# Altium footprint library Supernova Sensors.PcbLib: 18 footprints (part 2 of 2)
Each footprint in its own frame and in the unit in brackets; x right, y up, seen from the top. Pads: shape width x height; smd on the part's side, far side on the other; paste and mask are expansions set on the pad; w line width, h text height; cw(c..) or ccw(c..) is an arc to the next point about the centre after c.
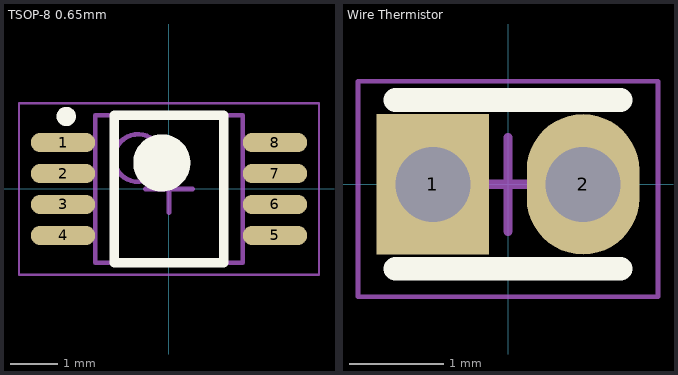
[diagram p1: the footprints below, top view; thin cyan lines are the x and y axes]

## TSOP-8 0.65mm [mm] "TSOP, 8-Leads, Body 3.00x3.00mm, Pitch 0.65mm, IPC Medium Density"
height 1.1
pads (8):
  oval 1.35x0.406 smd mask+0.025: 1(-2.225,0.975) 2(-2.225,0.325) 3(-2.225,-0.325) 4(-2.225,-0.975) 5(2.225,-0.975) 6(2.225,-0.325) 7(2.225,0.325) 8(2.225,0.975)
Top Overlay:
  circle w0.6: c-0.15,0.55 r0.3
  circle w0.203: c-2.159,1.524 r0.102
  lines w0.2: -1.15,-1.55 1.15,-1.55 1.15,1.55 -1.15,1.55 -1.15,-1.55
Top 3D Body:
  circle w0.1: c-0.65,0.65 r0.5
  lines w0.1: -1.55,-1.55 1.55,-1.55 1.55,1.55 -1.55,1.55 -1.55,-1.55
Top Courtyard:
  lines w0.05: -3.15,-1.8 3.15,-1.8 3.15,1.8 -3.15,1.8 -3.15,-1.8
  lines w0.1: -0.5,0 0.5,0 ; 0,-0.5 0,0.5
3D body: height 1.1, standoff 0.05, extent -1.55,-1.55 1.55,1.55
3D body: height 0.2, standoff 0, extent -2.375,0.8 2.464,1.15
3D body: height 0.2, standoff 0, extent -2.375,0.15 2.464,0.5
3D body: height 0.2, standoff 0, extent -2.375,-0.5 2.464,-0.15
3D body: height 0.2, standoff 0, extent -2.375,-1.15 2.464,-0.8

## Wire Thermistor [mm]
pads (2):
  rect 1.2x1.5 hole 0.8 paste+0 mask+0: 1(-0.8,0)
  oval 1.2x1.5 hole 0.8 paste+0 mask+0: 2(0.8,0)
Top Overlay:
  lines w0.254: -1.2,-0.9 1.2,-0.9 ; -1.2,0.9 1.2,0.9
Top Courtyard:
  lines w0.05: -1.6,-1.2 -1.6,1.1 1.6,1.1 1.6,-1.2 -1.6,-1.2
  lines w0.1: -0.5,0 0.5,0 ; 0,-0.5 0,0.5